# Altium footprint library Barrel.PcbLib: 1 footprints
Each footprint in its own frame and in the unit in brackets; x right, y up, seen from the top. Pads: shape width x height; smd on the part's side, far side on the other; paste and mask are expansions set on the pad; w line width, h text height; cw(c..) or ccw(c..) is an arc to the next point about the centre after c.
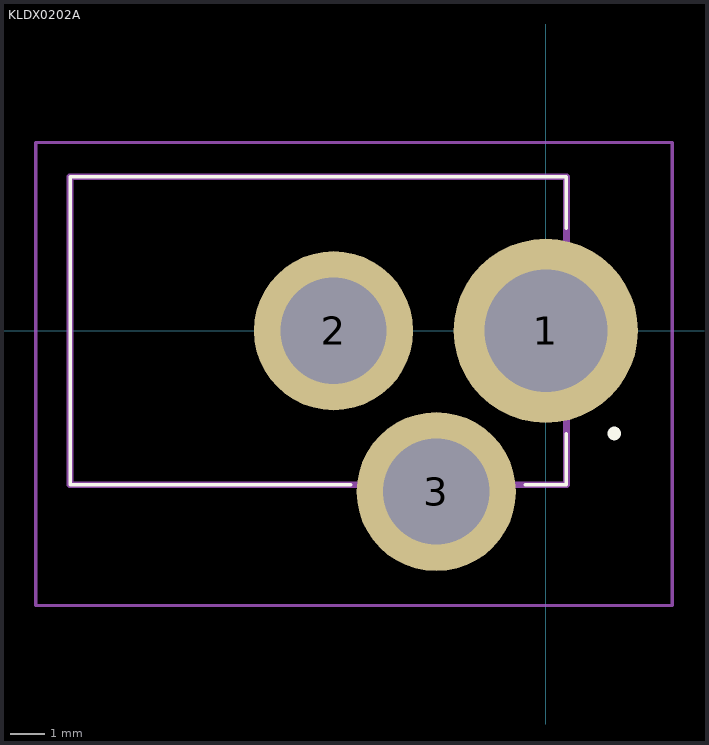
[diagram p0: the footprint, top view; thin cyan lines are the x and y axes]

## KLDX0202A [mm]
pads (3):
  round 5.385 hole 3.59: 1(0,0)
  round 4.65 hole 3.1: 2(-6.2,0) 3(-3.2,-4.7)
Top Overlay:
  lines w0.1: -5.7,-4.5 -13.9,-4.5 -13.9,4.5 0.6,4.5 0.6,3 ; -0.6,-4.5 0.6,-4.5 0.6,-3
  lines w0.2: 1.9,-3 cw(c2,-3) 2.1,-3 ; 1.9,-3 1.9,-3 ; 1.9,-3 ccw(c2,-3) 2.1,-3 ; 2.1,-3 2.1,-3
Mechanical 15:
  lines w0.2: -13.9,-4.5 0.6,-4.5 0.6,4.5 -13.9,4.5 -13.9,-4.5
Mechanical 20:
  lines w0.1: -14.9,-8.025 3.692,-8.025 3.692,5.5 -14.9,5.5 -14.9,-8.025